# EAGLE library part HIROSE-FX2-100S-1.27DS (library STUNTAZ)
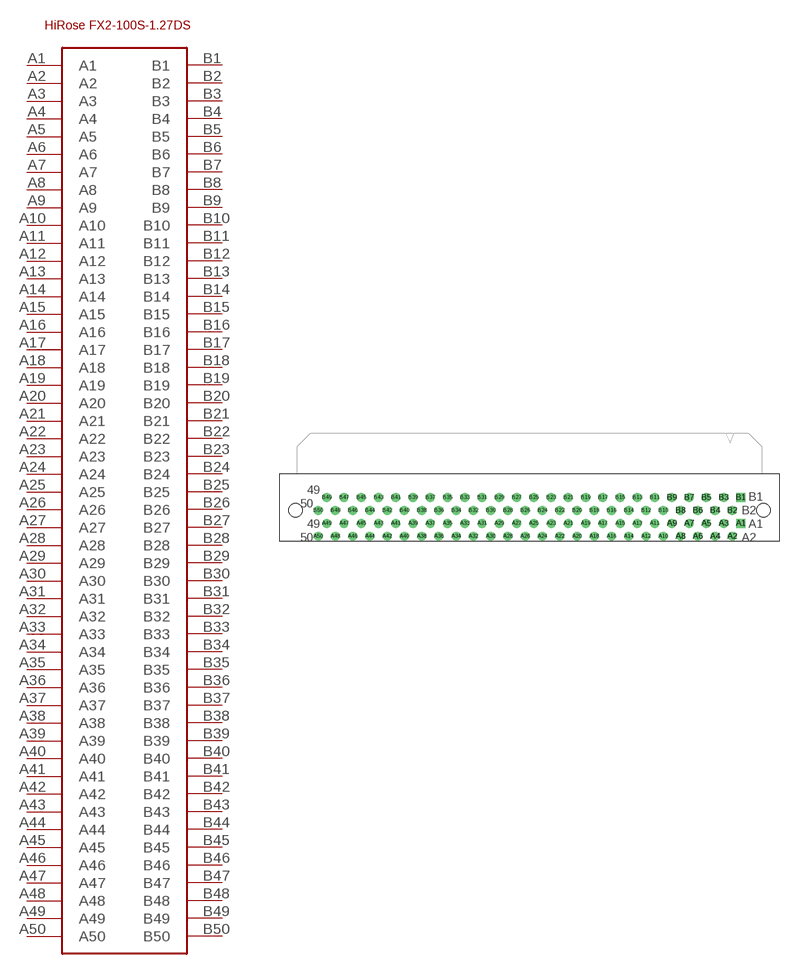
[diagram p5: symbol with the pads of HIROSE-FX2-100S; footprint HIROSE-FX2-100S]

Designator prefix -

## HIROSE-FX2-100S-1.27DS  [HIROSE-FX2-100S]
A1  A1
A2  A2
A3  A3
A4  A4
A5  A5
A6  A6
A7  A7
A8  A8
A9  A9
A10  A10
A11  A11
A12  A12
A13  A13
A14  A14
A15  A15
A16  A16
A17  A17
A18  A18
A19  A19
A20  A20
A21  A21
A22  A22
A23  A23
A24  A24
A25  A25
A26  A26
A27  A27
A28  A28
A29  A29
A30  A30
A31  A31
A32  A32
A33  A33
A34  A34
A35  A35
A36  A36
A37  A37
A38  A38
A39  A39
A40  A40
A41  A41
A42  A42
A43  A43
A44  A44
A45  A45
A46  A46
A47  A47
A48  A48
A49  A49
A50  A50
B1  B1
B2  B2
B3  B3
B4  B4
B5  B5
B6  B6
B7  B7
B8  B8
B9  B9
B10  B10
B11  B11
B12  B12
B13  B13
B14  B14
B15  B15
B16  B16
B17  B17
B18  B18
B19  B19
B20  B20
B21  B21
B22  B22
B23  B23
B24  B24
B25  B25
B26  B26
B27  B27
B28  B28
B29  B29
B30  B30
B31  B31
B32  B32
B33  B33
B34  B34
B35  B35
B36  B36
B37  B37
B38  B38
B39  B39
B40  B40
B41  B41
B42  B42
B43  B43
B44  B44
B45  B45
B46  B46
B47  B47
B48  B48
B49  B49
B50  B50

## Footprint HIROSE-FX2-100S (pad centres in mm)
1.27mm Pitch Multi-function Two Piece Connector
drill 0.8 square: A1 67.89,2.69; B1 67.89,6.5
drill 0.8 round: A2 66.62,0.785; A3 65.35,2.69; A4 64.08,0.785; A5 62.81,2.69; A6 61.54,0.785; A7 60.27,2.69; A8 59,0.785; A9 57.73,2.69; A10 56.46,0.785; A11 55.19,2.69; A12 53.92,0.785; A13 52.65,2.69; A14 51.38,0.785; A15 50.11,2.69; A16 48.84,0.785; A17 47.57,2.69; A18 46.3,0.785; A19 45.03,2.69; A20 43.76,0.785; A21 42.49,2.69; A22 41.22,0.785; A23 39.95,2.69; A24 38.68,0.785; A25 37.41,2.69; A26 36.14,0.785; A27 34.87,2.69; A28 33.6,0.785; A29 32.33,2.69; A30 31.06,0.785; A31 29.79,2.69; A32 28.52,0.785; A33 27.25,2.69; A34 25.98,0.785; A35 24.71,2.69; A36 23.44,0.785; A37 22.17,2.69; A38 20.9,0.785; A39 19.63,2.69; A40 18.36,0.785; A41 17.09,2.69; A42 15.82,0.785; A43 14.55,2.69; A44 13.28,0.785; A45 12.01,2.69; A46 10.74,0.785; A47 9.47,2.69; A48 8.2,0.785; A49 6.93,2.69; A50 5.66,0.785; B2 66.62,4.595; B3 65.35,6.5; B4 64.08,4.595; B5 62.81,6.5; B6 61.54,4.595; B7 60.27,6.5; B8 59,4.595; B9 57.73,6.5; B10 56.46,4.595; B11 55.19,6.5; B12 53.92,4.595; B13 52.65,6.5; B14 51.38,4.595; B15 50.11,6.5; B16 48.84,4.595; B17 47.57,6.5; B18 46.3,4.595; B19 45.03,6.5; B20 43.76,4.595; B21 42.49,6.5; B22 41.22,4.595; B23 39.95,6.5; B24 38.68,4.595; B25 37.41,6.5; B26 36.14,4.595; B27 34.87,6.5; B28 33.6,4.595; B29 32.33,6.5; B30 31.06,4.595; B31 29.79,6.5; B32 28.52,4.595; B33 27.25,6.5; B34 25.98,4.595; B35 24.71,6.5; B36 23.44,4.595; B37 22.17,6.5; B38 20.9,4.595; B39 19.63,6.5; B40 18.36,4.595; B41 17.09,6.5; B42 15.82,4.595; B43 14.55,6.5; B44 13.28,4.595; B45 12.01,6.5; B46 10.74,4.595; B47 9.47,6.5; B48 8.2,4.595; B49 6.93,6.5; B50 5.66,4.595
hole 2 at 2.35,4.595
hole 2 at 71.2,4.595